# Altium schematic symbol library C0402C104K4RACTU.SchLib: 1 symbol
Pins are listed as number, name and electrical type; pins without a type are passive.

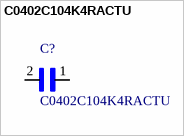
[diagram p0: symbol C0402C104K4RACTU]

## C0402C104K4RACTU
designator C?
/ Capacitor; Ceramic; Cap; .100uF; Tol 10%; SMT; Vol-Rtg 16V; X7R; Tape And Reel /; MF: KEMET; SnapEDA_Link: https://www.snapeda.com/parts/C0402C104K4RACTU/KEMET/view-part/?ref=snap; MP: C0402C104K4RACTU; Availability: Unavailable; Package: 0402 Kemet; Price: None; Value: *
footprint *CAPC1005X60
pins: 1, 2